# Altium schematic symbol library MCP1801.SchLib: 1 symbol
Pins are listed as number, name and electrical type; pins without a type are passive.

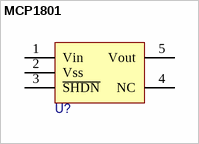
[diagram p0: symbol MCP1801]

## MCP1801
designator U?  (value not drawn)
pins: 1 Vin, 2 Vss, 3 ~{SHDN}, 4 NC, 5 Vout